# Altium schematic symbol library SCH - FET - P-CH - INFINEON PG-TO252-3-313.Schlib: 1 symbol
Pins are listed as number, name and electrical type; pins without a type are passive.

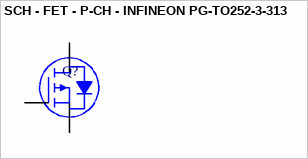
[diagram p0: symbol SCH - FET - P-CH - INFINEON PG-TO252-3-313]

## SCH - FET - P-CH - INFINEON PG-TO252-3-313
designator Q?
pins: 1 G, 2 D, 3 S